# Altium footprint library ADP7102ACPZ.PcbLib: 1 footprints
Each footprint in its own frame and in the unit in brackets; x right, y up, seen from the top. Pads: shape width x height; smd on the part's side, far side on the other; paste and mask are expansions set on the pad; w line width, h text height; cw(c..) or ccw(c..) is an arc to the next point about the centre after c.
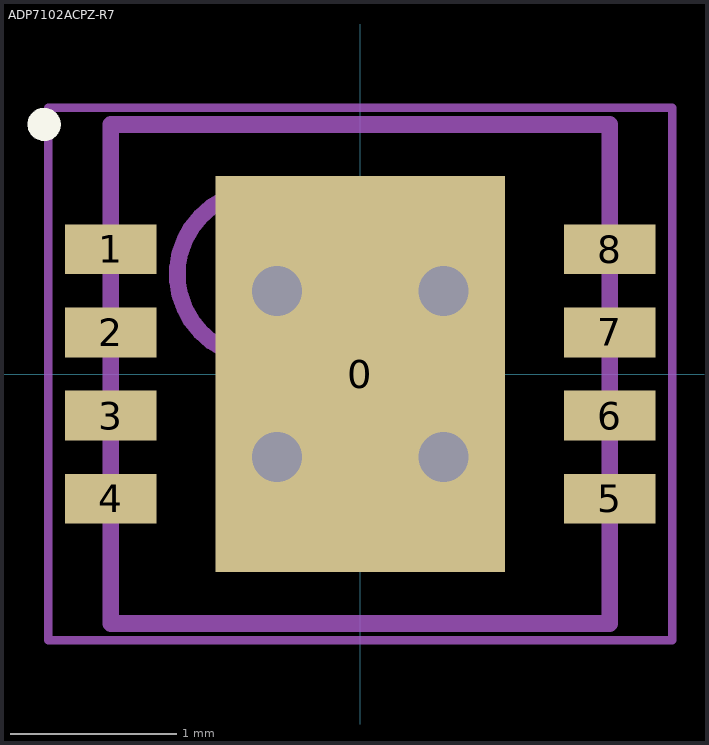
[diagram p0: the footprint, top view; thin cyan lines are the x and y axes]

## ADP7102ACPZ-R7 [mm] "SON, 8-Leads, Body 3x3mm, Pitch 0.5mm, Thermal Pad 1.74x2.38mm"
height 0.8
pads (9):
  rect 1.74x2.38 smd mask+0.05: 0(0,0)
  rect 0.55x0.3 smd mask+0.05: 1(-1.5,0.75) 2(-1.5,0.25) 3(-1.5,-0.25) 4(-1.5,-0.75) 5(1.5,-0.75) 6(1.5,-0.25) 7(1.5,0.25) 8(1.5,0.75)
via -0.5,0.5 diameter 0.6 hole 0.3
via 0.5,0.5 diameter 0.6 hole 0.3
via -0.5,-0.5 diameter 0.6 hole 0.3
via 0.5,-0.5 diameter 0.6 hole 0.3
Top Overlay:
  circle w0.1: c-1.9,1.5 r0.05
Top Courtyard:
  lines w0.05: -1.875,-1.6 -1.875,1.6 1.875,1.6 1.875,-1.6 -1.875,-1.6
  lines w0.1: -0.5,0 0.5,0 ; 0,-0.5 0,0.5
Top 3D Body:
  circle w0.1: c-0.6,0.6 r0.5
  lines w0.1: -1.5,-1.5 -1.5,1.5 1.5,1.5 1.5,-1.5 -1.5,-1.5
3D body: height 0.8, standoff 0, extent -1.5,-1.5 1.5,1.5